# Altium footprint library Smart_home.PcbLib: 9 footprints
Each footprint in its own frame and in the unit in brackets; x right, y up, seen from the top. Pads: shape width x height; smd on the part's side, far side on the other; paste and mask are expansions set on the pad; w line width, h text height; cw(c..) or ccw(c..) is an arc to the next point about the centre after c.
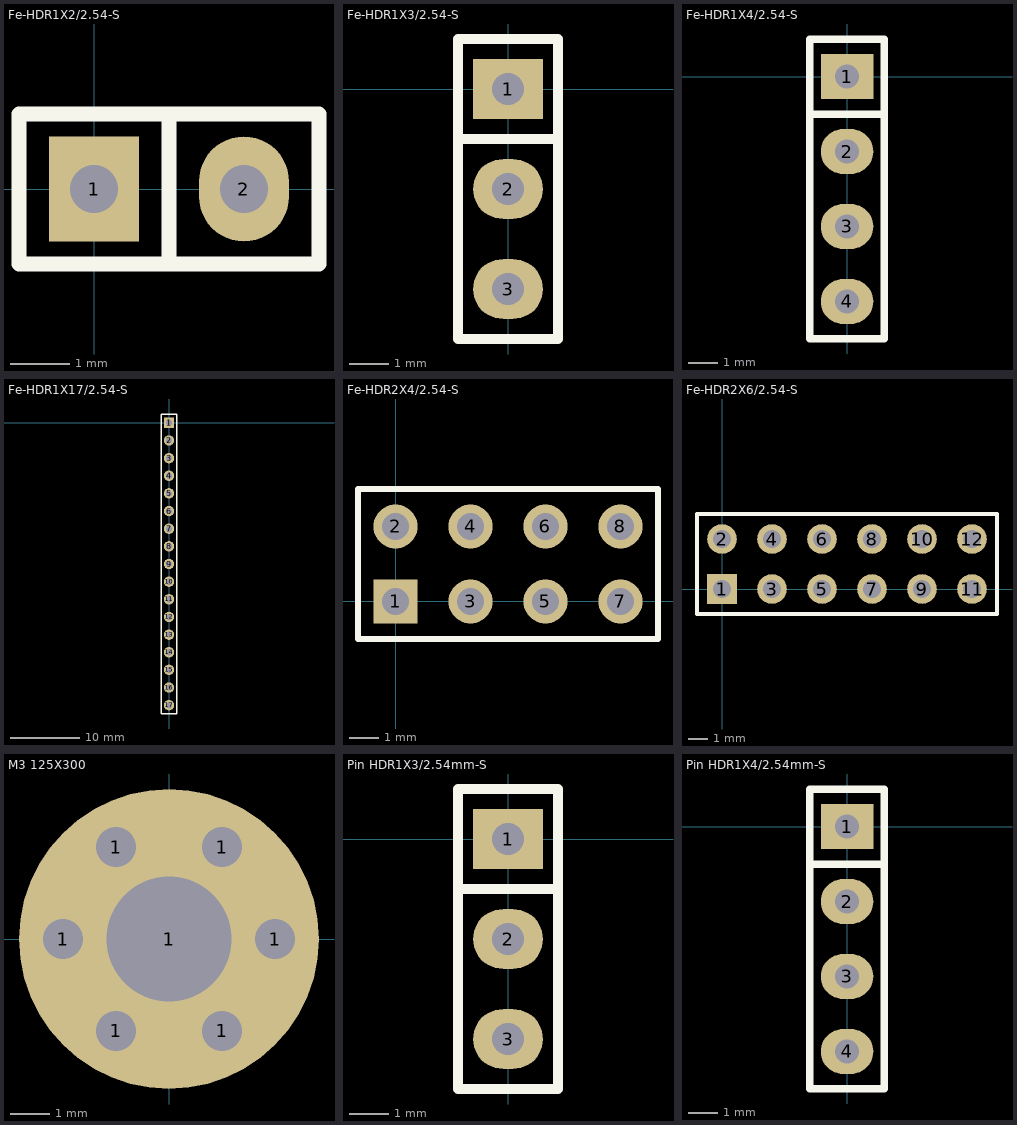
[diagram p0: the footprints below, top view; thin cyan lines are the x and y axes]

## Fe-HDR1X2/2.54-S [mil] "Connector; Header; 2x2 Position"
pads (2):
  rect 60x70 hole 32: 1(0,0)
  oval 60x70 hole 32: 2(100,0)
Top Overlay:
  lines w10: 50,-50 50,50 ; -50,-50 150,-50 150,50 -50,50 -50,-50
3D body "Female-Header-2.54-Single-2.stp": height 334.65, standoff -125.98, extent -54.92,-48.43 154.92,50

## Fe-HDR1X3/2.54-S [mil]
pads (3):
  rect 70x60 hole 32: 1(0,0)
  oval 70x60 hole 32: 2(0,-100) 3(0,-200)
Top Overlay:
  lines w10: -50,-50 50,-50 ; -50,-250 -50,50 50,50 50,-250 -50,-250
3D body "Female-Header-2.54-Single-3.stp": height 334.65, standoff -125.98, extent -50,-254.92 48.43,54.92

## Fe-HDR1X4/2.54-S [mil]
pads (4):
  rect 70x60 hole 32: 1(0,0)
  oval 70x60 hole 32: 2(0,-100) 3(0,-200) 4(0,-300)
Top Overlay:
  lines w10: -50,-50 50,-50 ; -50,-350 50,-350 50,50 -50,50 -50,-350
3D body "Female-Header-2.54-Single-4.stp": height 334.65, standoff -125.98, extent -44.21,-354.92 54.22,54.92

## Fe-HDR1X17/2.54-S [mm]
pads (17):
  rect 1.5x1.5 hole 0.9: 1(0,0)
  round 1.5 hole 0.9: 2(0,-2.54) 3(0,-5.08) 4(0,-7.62) 5(0,-10.16) 6(0,-12.7) 7(0,-15.24) 8(0,-17.78) 9(0,-20.32) 10(0,-22.86) 11(0,-25.4) 12(0,-27.94) 13(0,-30.48) 14(0,-33.02) 15(0,-35.56) 16(0,-38.1) 17(0,-40.64)
Top Overlay:
  lines w0.2: -1.143,-41.91 1.143,-41.91 1.143,-0.508 1.143,1.27 -1.143,1.27 -1.143,-41.91
3D body "Female-Header-2.54-Single-17.stp": height 3.2, standoff -8.5, extent -1.25,-42.035 1.25,1.395

## Fe-HDR2X4/2.54-S [mm] "Connector; Header; 4x2 Position"
pads (8):
  rect 1.5x1.5 hole 0.9: 1(0,0)
  round 1.5 hole 0.9: 2(0,2.54) 3(2.54,0) 4(2.54,2.54) 5(5.08,0) 6(5.08,2.54) 7(7.62,0) 8(7.62,2.54)
Top Overlay:
  lines w0.2: -1.27,-1.27 -1.27,3.81 8.89,3.81 8.89,-1.27 -1.27,-1.27
3D body "Female-Header-2.54-Double-8.stp": height 8.5, standoff -3.2, extent -1.266,-1.23 9.144,3.77

## Fe-HDR2X6/2.54-S [mm] "Connector; Header; 6x2 Position"
pads (12):
  rect 1.5x1.5 hole 0.9: 1(0,0)
  round 1.5 hole 0.9: 2(0,2.54) 3(2.54,0) 4(2.54,2.54) 5(5.08,0) 6(5.08,2.54) 7(7.62,0) 8(7.62,2.54) 9(10.16,0) 10(10.16,2.54) 11(12.7,0) 12(12.7,2.54)
Top Overlay:
  lines w0.2: -1.27,-1.27 -1.27,3.81 13.97,3.81 13.97,-1.27 -1.27,-1.27
3D body "Female-Header-2.54-Double-12.stp": height 8.5, standoff -3.2, extent -1.395,-1.23 14.095,3.77

## M3 125X300 [mil] "M3螺丝孔，孔125Mil，焊盘300Mil"
pads (7):
  round 40 hole 40: 1(-106,0) 1(-53,-91.8) 1(-53,91.8) 1(53,-91.8) 1(53,91.8) 1(106,0)
  round 300 hole 125: 1(0,0)

## Pin HDR1X3/2.54mm-S [mil]
pads (3):
  rect 70x60 hole 32: 1(0,0)
  oval 70x60 hole 32: 2(0,-100) 3(0,-200)
Top Overlay:
  lines w10: -50,-50 50,-50 ; -50,-250 -50,50 50,50 50,-250 -50,-250
3D body "1001-3.STEP": height 336.22, standoff -118.11, extent -49.99,-250 50.01,50

## Pin HDR1X4/2.54mm-S [mil]
pads (4):
  rect 70x60 hole 32: 1(0,0)
  oval 70x60 hole 32: 2(0,-100) 3(0,-200) 4(0,-300)
Top Overlay:
  lines w10: -50,-50 50,-50 ; -50,-350 50,-350 50,50 -50,50 -50,-350
3D body "1001-4.STEP": height 336.22, standoff -118.11, extent -49.99,-350 50.01,50